# Altium footprint library PCB - CONNECTOR - USB - CUI UJ31-CH-31-SMT-TR.PcbLib: 1 footprints
Each footprint in its own frame and in the unit in brackets; x right, y up, seen from the top. Pads: shape width x height; smd on the part's side, far side on the other; paste and mask are expansions set on the pad; w line width, h text height; cw(c..) or ccw(c..) is an arc to the next point about the centre after c.
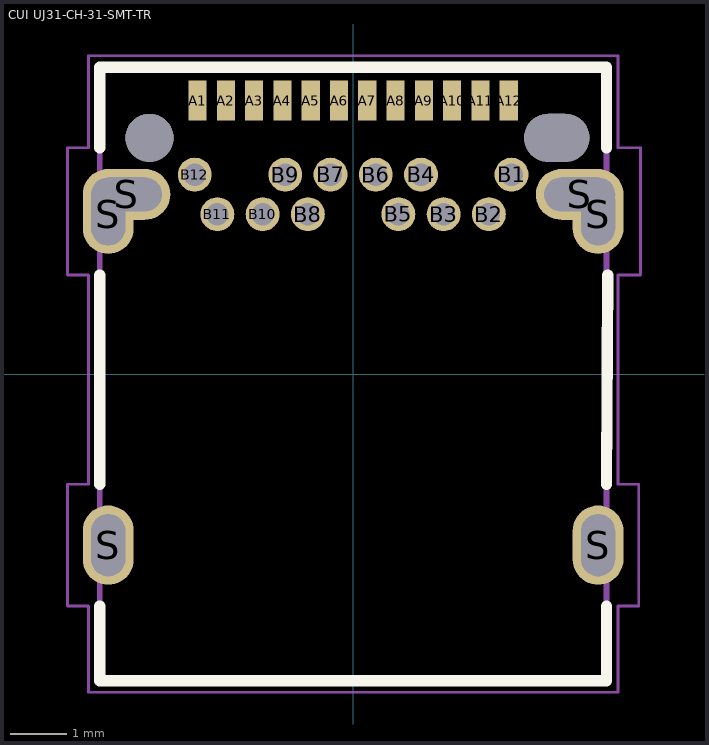
[diagram p0: the footprint, top view; thin cyan lines are the x and y axes]

## CUI UJ31-CH-31-SMT-TR [mm] "USB-C Receptacle Connector, 24 Postions, Body 8.96x10.85mm, SMD Pitch 0.5mm, TH Pitch 0.4mm"
height 3.16
pads (32):
  rect 0.32x0.7 smd: A1(-2.75,4.835) A2(-2.25,4.835) A3(-1.75,4.835) A4(-1.25,4.835) A5(-0.75,4.835) A6(-0.25,4.835) A7(0.25,4.835) A8(0.75,4.835) A9(1.25,4.835) A10(1.75,4.835) A11(2.25,4.835) A12(2.75,4.835)
  round 0.6 hole 0.4: B1(2.8,3.525) B2(2.4,2.825) B3(1.6,2.825) B4(1.2,3.525) B5(0.8,2.825) B6(0.4,3.525) B7(-0.4,3.525) B8(-0.8,2.825) B9(-1.2,3.525) B10(-1.6,2.825) B11(-2.4,2.825) B12(-2.8,3.525)
  oval 0.9x1.4 hole 0.6 slot 1.1 at 90 deg: S(-4.33,-3.025) S(-4.33,2.825) S(4.33,2.825) S(4.33,-3.025)
  oval 1.55x0.9 hole 0.6 slot 1.25 at 0 deg: S(-4.005,3.175) S(4.005,3.175)
  round 0.85 hole 0.85 unplated: ""(-3.6,4.175)
  oval 1.15x0.85 hole 0.85 slot 1.15 at 0 deg unplated: ""(3.6,4.175)
Top Overlay:
  lines w0.2: -4.48,-4.1 -4.48,-5.425 4.48,-5.425 4.48,-4.1 ; -4.48,-1.95 -4.48,1.75 ; -4.48,4 -4.48,5.425 4.48,5.425 4.48,4 ; 4.48,-1.95 4.5,1.75
Mechanical 13:
  circle w0.1: c-2.75,4.935 r0.05
  lines w0.1: -4.48,-5.425 4.48,-5.425 4.48,5.425 -4.48,5.425 -4.48,-5.425
Mechanical 15:
  lines w0.05: -5.05,-4.1 -4.68,-4.1 -4.68,-5.625 4.68,-5.625 4.68,-4.1 5.05,-4.1 5.05,-1.95 4.68,-1.95 4.68,1.75 5.08,1.75 5.08,4 4.68,4 4.68,5.625 -4.68,5.625 -4.68,4 -5.05,4 -5.05,1.75 -4.68,1.75 -4.68,-1.95 -5.05,-1.95 -5.05,-4.1
3D body "CUI - UJ31-CH-G1-SMT-TR.stp": height 3.2, standoff -0.88, extent -4.48,-5.425 4.48,5.425